# Altium schematic symbol library battery_socets.schlib: 4 symbols
Pins are listed as number, name and electrical type; pins without a type are passive.

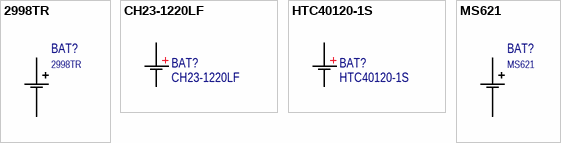
[diagram p0: symbols 2998TR to MS621]

## 2998TR
designator BAT?
Battery; Part: 2998TR
footprint BAT_2998TR
pins: N -, P1 +

## CH23-1220LF
designator BAT?
Battery holder
footprint CH23-1220LF (1220 Battary holder)
pins: 0, 1

## HTC40120-1S
designator BAT?
LTO cell
footprint HTC40120-1S
pins: +, -

## MS621
designator BAT?
Battery
footprint MS621 (Micro Li-ion rechargable battery)
pins: 0, 1